# Altium footprint library Connectors.PcbLib: 6 footprints
Each footprint in its own frame and in the unit in brackets; x right, y up, seen from the top. Pads: shape width x height; smd on the part's side, far side on the other; paste and mask are expansions set on the pad; w line width, h text height; cw(c..) or ccw(c..) is an arc to the next point about the centre after c.
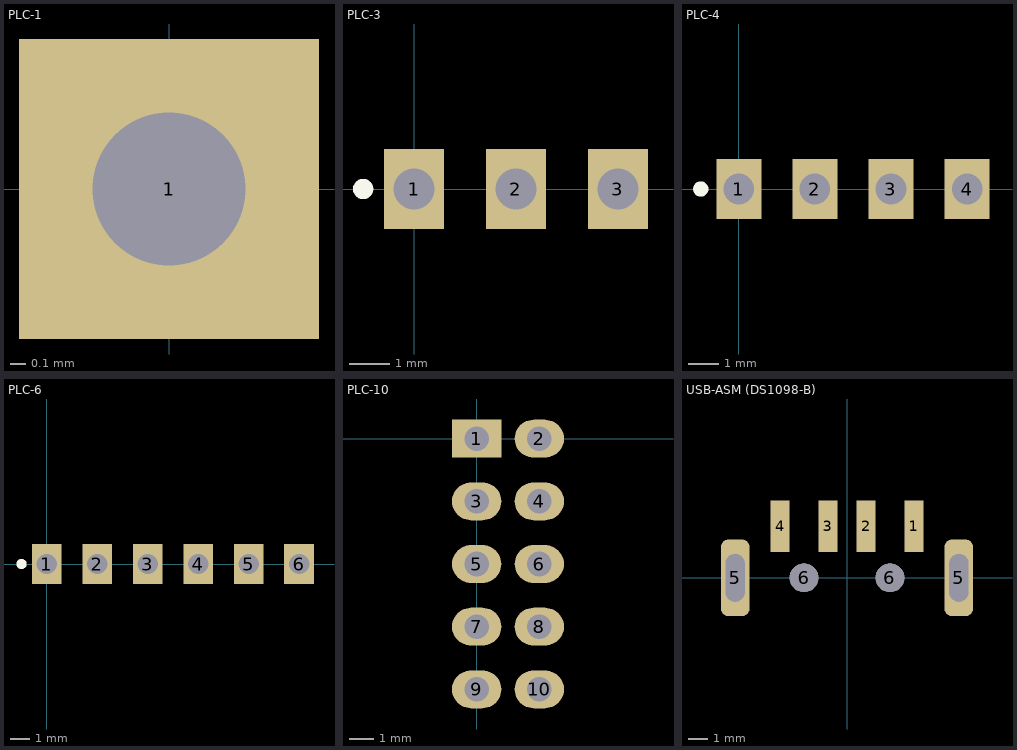
[diagram p0: the footprints below, top view; thin cyan lines are the x and y axes]

## PLC-1 [mm]
pads (1):
  rect 2x2 hole 1.02: 1(0,0)

## PLC-3 [mm]
pads (3):
  rect 1.5x2 hole 1.02: 1(0,0) 2(2.54,0) 3(5.08,0)
Top Overlay:
  circle w0.254: c-1.27,0 r0.127
Bottom Overlay:
  circle w0.254: c-1.27,0 r0.127

## PLC-4 [mm]
pads (4):
  rect 1.5x2 hole 1.02: 1(0,0) 2(2.54,0) 3(5.08,0) 4(7.62,0)
Top Overlay:
  circle w0.254: c-1.27,0 r0.127
Bottom Overlay:
  circle w0.254: c-1.27,0 r0.127

## PLC-6 [mm]
pads (6):
  rect 1.5x2 hole 1.02: 1(0,0) 2(2.54,0) 3(5.08,0) 4(7.62,0) 5(10.16,0) 6(12.7,0)
Top Overlay:
  circle w0.254: c-1.27,0 r0.127
Bottom Overlay:
  circle w0.254: c-1.27,0 r0.127

## PLC-10 [mm]
pads (10):
  rect 2x1.54 hole 1 mask+0.2: 1(0,0)
  oval 2x1.54 hole 1 mask+0.2: 2(2.54,0) 3(0,-2.54) 4(2.54,-2.54) 5(0,-5.08) 6(2.54,-5.08) 7(0,-7.62) 8(2.54,-7.62) 9(0,-10.16) 10(2.54,-10.16)

## USB-ASM (DS1098-B) [mm]
pads (8):
  rect 1x2.7 smd: 1(3.5,2.7) 2(1,2.7) 3(-1,2.7) 4(-3.5,2.7)
  rrect50% 1.5x4 hole 1 slot 2.5 at 90 deg: 5(-5.85,0) 5(5.85,0)
  round 1.5 hole 1.5 unplated: 6(-2.25,0) 6(2.25,0)
Drill Guide:
  lines w0.254: -5,-2.6 5,-2.6